# EAGLE library part 615032243321 (library Wuerth_Elektronik_eiCan_Modular_Jack_Connectors_v1.1)
WR-MJ Horizontal Shielded 2 x Dual Stacked Port with EMI Panel Finger 8P8C M. Jack Tab Up & Down, 32 Pins
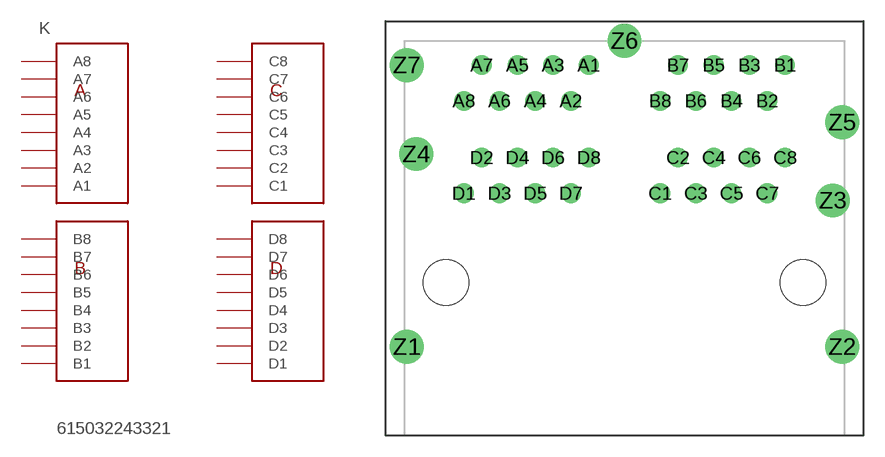
[diagram p17: symbol with the pads of 615032243321; footprint 615032243321]

Designator prefix K

## 615032243321  [615032243321]
A1  A1  pas
A2  A2  pas
A3  A3  pas
A4  A4  pas
A5  A5  pas
A6  A6  pas
A7  A7  pas
A8  A8  pas
B1  B1  pas
B2  B2  pas
B3  B3  pas
B4  B4  pas
B5  B5  pas
B6  B6  pas
B7  B7  pas
B8  B8  pas
C1  C1  pas
C2  C2  pas
C3  C3  pas
C4  C4  pas
C5  C5  pas
C6  C6  pas
C7  C7  pas
C8  C8  pas
D1  D1  pas
D2  D2  pas
D3  D3  pas
D4  D4  pas
D5  D5  pas
D6  D6  pas
D7  D7  pas
D8  D8  pas

## Footprint 615032243321 (pad centres in mm)
WR-MJ Horizontal Shielded 2 x Dual Stacked Port with EMI Panel Finger 8P8C M. Jack Tab Up & Down, 32 Pins
drill 0.89 round: A1 -2.54,0.865; A2 -3.81,-1.675; A3 -5.08,0.865; A4 -6.35,-1.675; A5 -7.62,0.865; A6 -8.89,-1.675; A7 -10.16,0.865; A8 -11.43,-1.675; B1 11.43,0.865; B2 10.16,-1.675; B3 8.89,0.865; B4 7.62,-1.675; B5 6.35,0.865; B6 5.08,-1.675; B7 3.81,0.865; B8 2.54,-1.675; C1 2.54,-8.255; C2 3.81,-5.715; C3 5.08,-8.255; C4 6.35,-5.715; C5 7.62,-8.255; C6 8.89,-5.715; C7 10.16,-8.255; C8 11.43,-5.715; D1 -11.43,-8.255; D2 -10.16,-5.715; D3 -8.89,-8.255; D4 -7.62,-5.715; D5 -6.35,-8.255; D6 -5.08,-5.715; D7 -3.81,-8.255; D8 -2.54,-5.715
drill 1.6 round: Z1 -15.495,-19.175; Z2 15.495,-19.175; Z3 14.82,-8.765; Z4 -14.82,-5.465; Z5 15.495,-3.205; Z6 0,2.595; Z7 -15.495,0.865
hole 3.25 at -12.7,-14.605
hole 3.25 at 12.7,-14.605